# Altium footprint library Lite-ON_LED.PcbLib: 13 footprints
Each footprint in its own frame and in the unit in brackets; x right, y up, seen from the top. Pads: shape width x height; smd on the part's side, far side on the other; paste and mask are expansions set on the pad; w line width, h text height; cw(c..) or ccw(c..) is an arc to the next point about the centre after c.
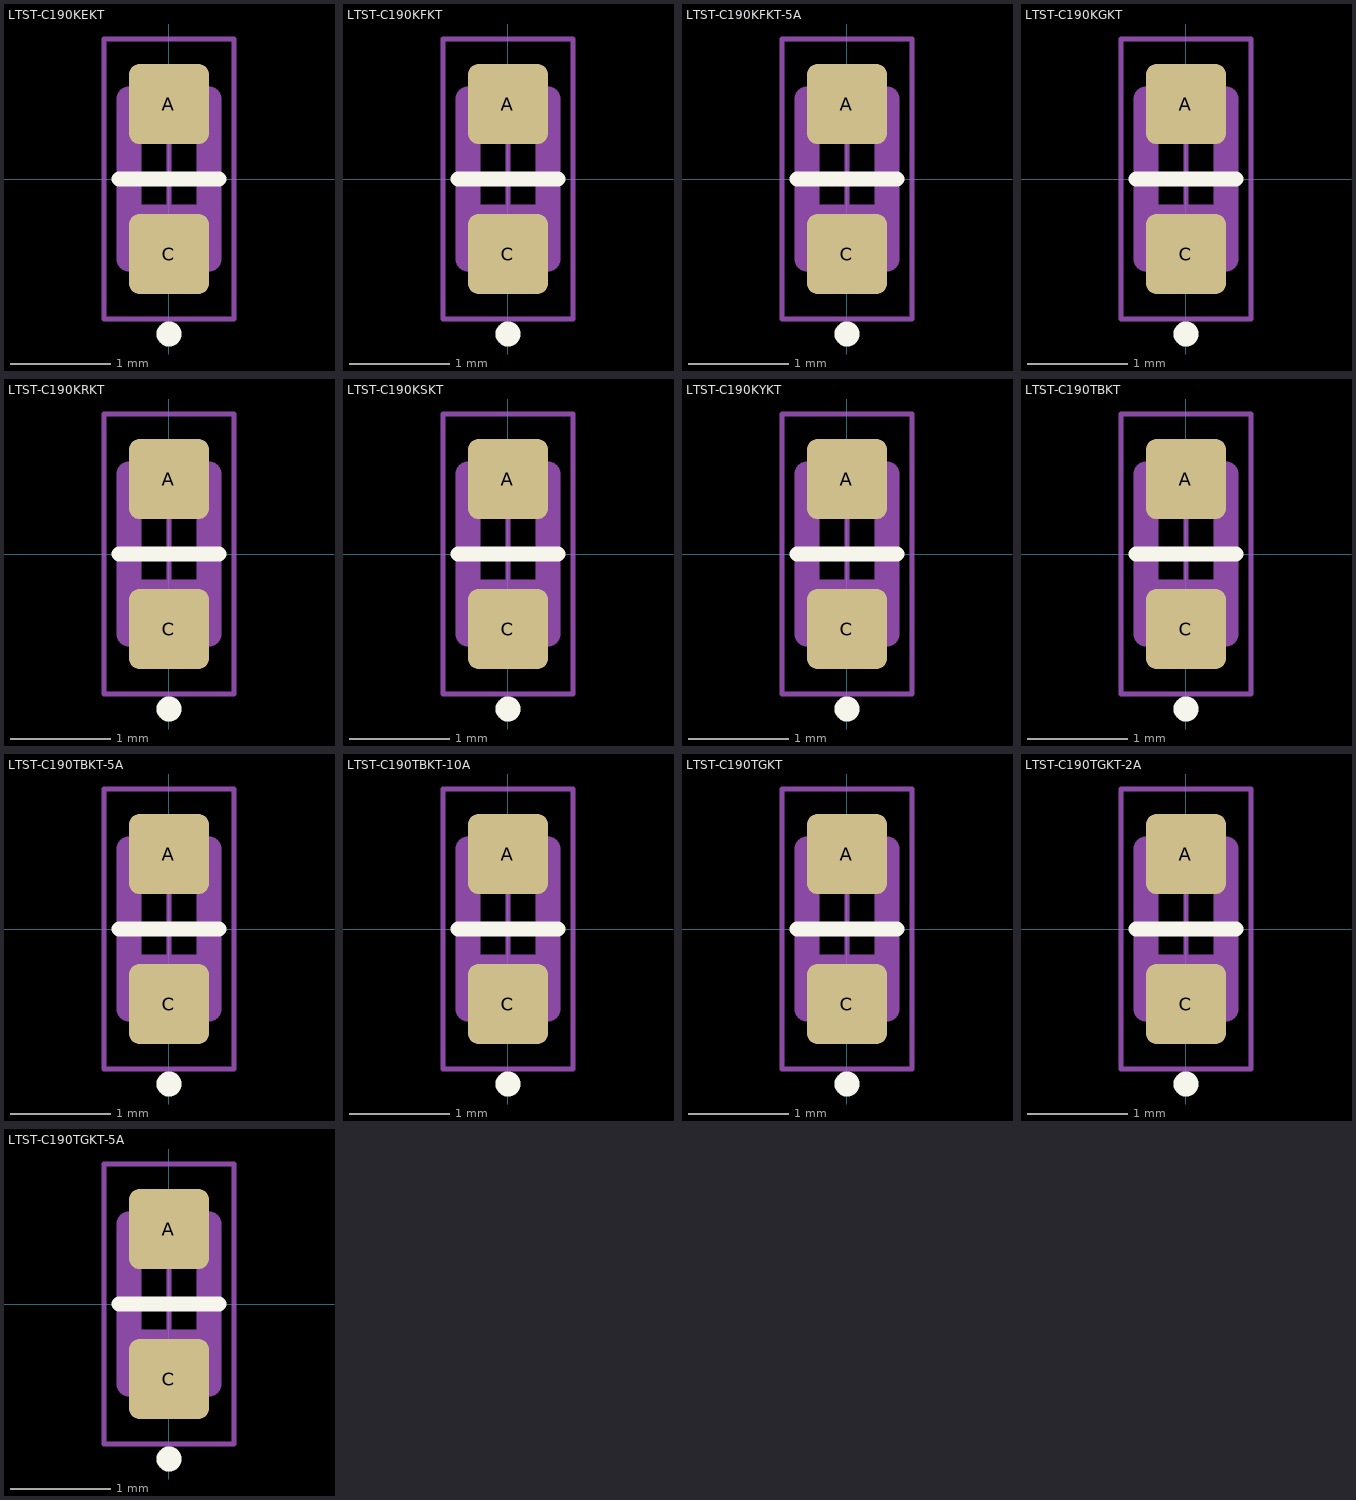
[diagram p0: the footprints below, top view; thin cyan lines are the x and y axes]

## LTST-C190KEKT [mm] "Lite-ON 0603 Red"
height 0.8
pads (2):
  rrect25% 0.8x0.8 smd: A(0,0.75) C(0,-0.75)
Top Overlay:
  circle w0.15: c0,-1.55 r0.05
  lines w0.15: -0.5,0 0.5,0
Top Assembly:
  rectangle: -0.381,-0.8 0.381,-0.254
  lines w0.25: -0.4,-0.8 0.4,-0.8 0.4,0.8 -0.4,0.8 -0.4,-0.8
  text ".Designator" at -3.378,-0.339 h1.5
Top Courtyard:
  lines w0.05: -0.35,0 0.35,0 ; 0,-0.35 0,0.35 ; -0.65,-1.4 0.65,-1.4 0.65,1.4 -0.65,1.4 -0.65,-1.4
3D body "LTST-C190KEKT.STEP": height 0.85, standoff 0, extent -0.4,-0.8 0.4,0.8

## LTST-C190KFKT [mm] "Lite-ON 0603 Orange"
height 0.8
pads (2):
  rrect25% 0.8x0.8 smd: A(0,0.75) C(0,-0.75)
Top Overlay:
  circle w0.15: c0,-1.55 r0.05
  lines w0.15: -0.5,0 0.5,0
Top Assembly:
  rectangle: -0.381,-0.8 0.381,-0.254
  lines w0.25: -0.4,-0.8 -0.4,0.8 0.4,0.8 0.4,-0.8 -0.4,-0.8
  text ".Designator" at -3.378,-0.339 h1.5
Top Courtyard:
  lines w0.05: -0.35,0 0.35,0 ; 0,-0.35 0,0.35 ; -0.65,-1.4 -0.65,1.4 0.65,1.4 0.65,-1.4 -0.65,-1.4
3D body "LTST-C190KFKT.STEP": height 0.85, standoff 0, extent -0.4,-0.8 0.4,0.8

## LTST-C190KFKT-5A [mm] "Lite-ON 0603 Orange"
height 0.8
pads (2):
  rrect25% 0.8x0.8 smd: A(0,0.75) C(0,-0.75)
Top Overlay:
  circle w0.15: c0,-1.55 r0.05
  lines w0.15: -0.5,0 0.5,0
Top Assembly:
  rectangle: -0.381,-0.8 0.381,-0.254
  lines w0.25: -0.4,-0.8 0.4,-0.8 0.4,0.8 -0.4,0.8 -0.4,-0.8
  text ".Designator" at -3.378,-0.339 h1.5
Top Courtyard:
  lines w0.05: -0.35,0 0.35,0 ; 0,-0.35 0,0.35 ; -0.65,-1.4 0.65,-1.4 0.65,1.4 -0.65,1.4 -0.65,-1.4
3D body "LTST-C190KFKT-5A.STEP": height 0.85, standoff 0, extent -0.4,-0.8 0.4,0.8

## LTST-C190KGKT [mm] "Lite-ON 0603 Green"
height 0.8
pads (2):
  rrect25% 0.8x0.8 smd: A(0,0.75) C(0,-0.75)
Top Overlay:
  circle w0.15: c0,-1.55 r0.05
  lines w0.15: -0.5,0 0.5,0
Top Assembly:
  rectangle: -0.381,-0.8 0.381,-0.254
  lines w0.25: -0.4,-0.8 -0.4,0.8 0.4,0.8 0.4,-0.8 -0.4,-0.8
  text ".Designator" at -3.378,-0.339 h1.5
Top Courtyard:
  lines w0.05: -0.35,0 0.35,0 ; 0,-0.35 0,0.35 ; -0.65,-1.4 -0.65,1.4 0.65,1.4 0.65,-1.4 -0.65,-1.4
3D body "LTST-C190KGKT.STEP": height 0.85, standoff 0, extent -0.4,-0.8 0.4,0.8

## LTST-C190KRKT [mm] "Lite-ON 0603 Red"
height 0.8
pads (2):
  rrect25% 0.8x0.8 smd: A(0,0.75) C(0,-0.75)
Top Overlay:
  circle w0.15: c0,-1.55 r0.05
  lines w0.15: -0.5,0 0.5,0
Top Assembly:
  rectangle: -0.381,-0.8 0.381,-0.254
  lines w0.25: -0.4,-0.8 0.4,-0.8 0.4,0.8 -0.4,0.8 -0.4,-0.8
  text ".Designator" at -3.378,-0.339 h1.5
Top Courtyard:
  lines w0.05: -0.35,0 0.35,0 ; 0,-0.35 0,0.35 ; -0.65,-1.4 0.65,-1.4 0.65,1.4 -0.65,1.4 -0.65,-1.4
3D body "LTST-C190KRKT.STEP": height 0.85, standoff 0, extent -0.4,-0.8 0.4,0.8

## LTST-C190KSKT [mm] "Lite-ON 0603 Yellow"
height 0.8
pads (2):
  rrect25% 0.8x0.8 smd: A(0,0.75) C(0,-0.75)
Top Overlay:
  circle w0.15: c0,-1.55 r0.05
  lines w0.15: -0.5,0 0.5,0
Top Assembly:
  rectangle: -0.381,-0.8 0.381,-0.254
  lines w0.25: -0.4,-0.8 -0.4,0.8 0.4,0.8 0.4,-0.8 -0.4,-0.8
  text ".Designator" at -3.378,-0.339 h1.5
Top Courtyard:
  lines w0.05: -0.35,0 0.35,0 ; 0,-0.35 0,0.35 ; -0.65,-1.4 -0.65,1.4 0.65,1.4 0.65,-1.4 -0.65,-1.4
3D body "LTST-C190KSKT.STEP": height 0.85, standoff 0, extent -0.4,-0.8 0.4,0.8

## LTST-C190KYKT [mm] "Lite-ON 0603 Yellow"
height 0.8
pads (2):
  rrect25% 0.8x0.8 smd: A(0,0.75) C(0,-0.75)
Top Overlay:
  circle w0.15: c0,-1.55 r0.05
  lines w0.15: -0.5,0 0.5,0
Top Assembly:
  rectangle: -0.381,-0.8 0.381,-0.254
  lines w0.25: -0.4,-0.8 0.4,-0.8 0.4,0.8 -0.4,0.8 -0.4,-0.8
  text ".Designator" at -3.378,-0.339 h1.5
Top Courtyard:
  lines w0.05: -0.35,0 0.35,0 ; 0,-0.35 0,0.35 ; -0.65,-1.4 0.65,-1.4 0.65,1.4 -0.65,1.4 -0.65,-1.4
3D body "LTST-C190KYKT.STEP": height 0.85, standoff 0, extent -0.4,-0.8 0.4,0.8

## LTST-C190TBKT [mm] "Lite-ON 0603 Blue"
height 0.8
pads (2):
  rrect25% 0.8x0.8 smd: A(0,0.75) C(0,-0.75)
Top Overlay:
  circle w0.15: c0,-1.55 r0.05
  lines w0.15: -0.5,0 0.5,0
Top Assembly:
  rectangle: -0.381,-0.8 0.381,-0.254
  lines w0.25: -0.4,-0.8 -0.4,0.8 0.4,0.8 0.4,-0.8 -0.4,-0.8
  text ".Designator" at -3.378,-0.339 h1.5
Top Courtyard:
  lines w0.05: -0.35,0 0.35,0 ; 0,-0.35 0,0.35 ; -0.65,-1.4 -0.65,1.4 0.65,1.4 0.65,-1.4 -0.65,-1.4
3D body "LTST-C190TBKT.STEP": height 0.85, standoff 0, extent -0.4,-0.8 0.4,0.8

## LTST-C190TBKT-5A [mm] "Lite-ON 0603 Blue"
height 0.8
pads (2):
  rrect25% 0.8x0.8 smd: A(0,0.75) C(0,-0.75)
Top Overlay:
  circle w0.15: c0,-1.55 r0.05
  lines w0.15: -0.5,0 0.5,0
Top Assembly:
  rectangle: -0.381,-0.8 0.381,-0.254
  lines w0.25: -0.4,-0.8 -0.4,0.8 0.4,0.8 0.4,-0.8 -0.4,-0.8
  text ".Designator" at -3.378,-0.339 h1.5
Top Courtyard:
  lines w0.05: -0.35,0 0.35,0 ; 0,-0.35 0,0.35 ; -0.65,-1.4 -0.65,1.4 0.65,1.4 0.65,-1.4 -0.65,-1.4
3D body "LTST-C190TBKT-5A.STEP": height 0.85, standoff 0, extent -0.4,-0.8 0.4,0.8

## LTST-C190TBKT-10A [mm] "Lite-ON 0603 Blue"
height 0.8
pads (2):
  rrect25% 0.8x0.8 smd: A(0,0.75) C(0,-0.75)
Top Overlay:
  circle w0.15: c0,-1.55 r0.05
  lines w0.15: -0.5,0 0.5,0
Top Assembly:
  rectangle: -0.381,-0.8 0.381,-0.254
  lines w0.25: -0.4,-0.8 0.4,-0.8 0.4,0.8 -0.4,0.8 -0.4,-0.8
  text ".Designator" at -3.378,-0.339 h1.5
Top Courtyard:
  lines w0.05: -0.35,0 0.35,0 ; 0,-0.35 0,0.35 ; -0.65,-1.4 0.65,-1.4 0.65,1.4 -0.65,1.4 -0.65,-1.4
3D body "LTST-C190TBKT-10A.STEP": height 0.85, standoff 0, extent -0.4,-0.8 0.4,0.8

## LTST-C190TGKT [mm] "Lite-ON 0603 Green"
height 0.8
pads (2):
  rrect25% 0.8x0.8 smd: A(0,0.75) C(0,-0.75)
Top Overlay:
  circle w0.15: c0,-1.55 r0.05
  lines w0.15: -0.5,0 0.5,0
Top Assembly:
  rectangle: -0.381,-0.8 0.381,-0.254
  lines w0.25: -0.4,-0.8 0.4,-0.8 0.4,0.8 -0.4,0.8 -0.4,-0.8
  text ".Designator" at -3.378,-0.339 h1.5
Top Courtyard:
  lines w0.05: -0.35,0 0.35,0 ; 0,-0.35 0,0.35 ; -0.65,-1.4 0.65,-1.4 0.65,1.4 -0.65,1.4 -0.65,-1.4
3D body "LTST-C190TGKT.STEP": height 0.85, standoff 0, extent -0.4,-0.8 0.4,0.8

## LTST-C190TGKT-2A [mm] "Lite-ON 0603 Green"
height 0.8
pads (2):
  rrect25% 0.8x0.8 smd: A(0,0.75) C(0,-0.75)
Top Overlay:
  circle w0.15: c0,-1.55 r0.05
  lines w0.15: -0.5,0 0.5,0
Top Assembly:
  rectangle: -0.381,-0.8 0.381,-0.254
  lines w0.25: -0.4,-0.8 0.4,-0.8 0.4,0.8 -0.4,0.8 -0.4,-0.8
  text ".Designator" at -3.378,-0.339 h1.5
Top Courtyard:
  lines w0.05: -0.35,0 0.35,0 ; 0,-0.35 0,0.35 ; -0.65,-1.4 0.65,-1.4 0.65,1.4 -0.65,1.4 -0.65,-1.4
3D body "LTST-C190TGKT-2A.STEP": height 0.85, standoff 0, extent -0.4,-0.8 0.4,0.8

## LTST-C190TGKT-5A [mm] "Lite-ON 0603 Green"
height 0.8
pads (2):
  rrect25% 0.8x0.8 smd: A(0,0.75) C(0,-0.75)
Top Overlay:
  circle w0.15: c0,-1.55 r0.05
  lines w0.15: -0.5,0 0.5,0
Top Assembly:
  rectangle: -0.381,-0.8 0.381,-0.254
  lines w0.25: -0.4,-0.8 0.4,-0.8 0.4,0.8 -0.4,0.8 -0.4,-0.8
  text ".Designator" at -3.378,-0.339 h1.5
Top Courtyard:
  lines w0.05: -0.35,0 0.35,0 ; 0,-0.35 0,0.35 ; -0.65,-1.4 0.65,-1.4 0.65,1.4 -0.65,1.4 -0.65,-1.4
3D body "LTST-C190TGKT-5A.STEP": height 0.85, standoff 0, extent -0.4,-0.8 0.4,0.8